# EAGLE library part S-DSP (library apu_module)
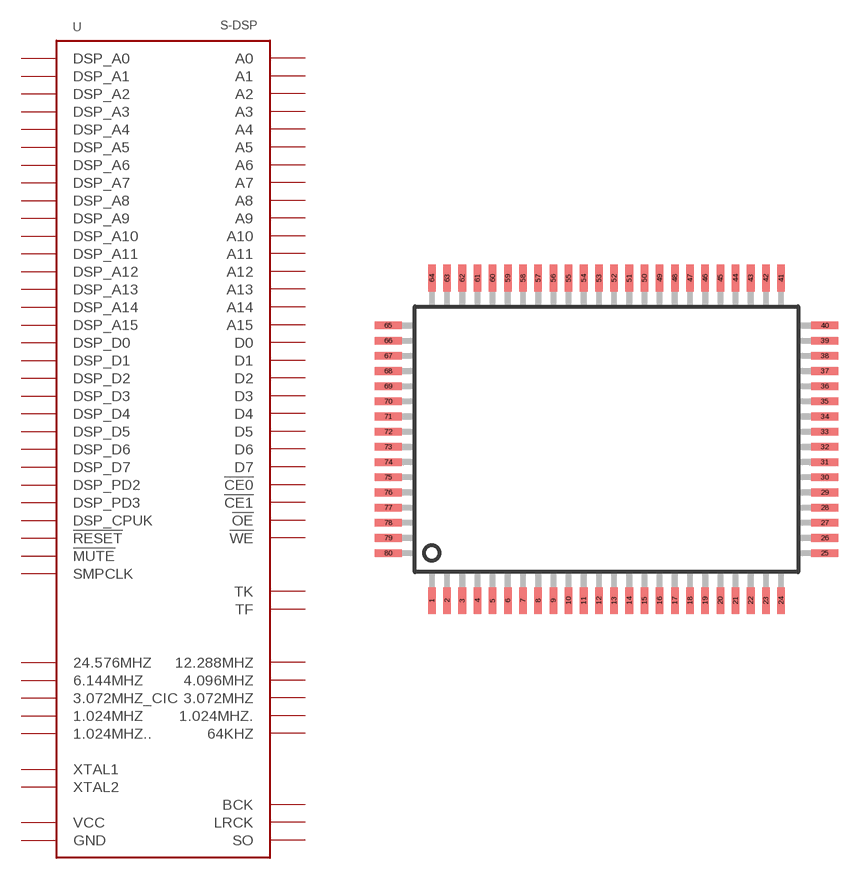
[diagram p1: symbol with the pads of QFP80_SOT318; footprint QFP80_SOT318]

Designator prefix -

## S-DSP  [QFP80_SOT318]
1  4.096MHZ
2  3.072MHZ
3  1.024MHZ
4  1.024MHZ.
5  1.024MHZ..
6  D2
7  D1
8  D0
9  A0
10  A1
11  A2
12  GND
13  A3
14  A4
15  A5
16  A6
17  A7
18  A12
19  A14
20  A15
22  D3
23  D4
24  D5
25  D6
26  D7
27  !CE1
28  !CE0
29  A10
30  !OE
31  A11
32  A9
33  VCC
34  A8
35  A13
36  !WE
37  TF
38  TK
39  !MUTE
40  64KHZ
41  3.072MHZ_CIC
42  BCK
43  LRCK
44  SO
45  XTAL1
46  XTAL2
47  !RESET
48  DSP_CPUK
49  DSP_PD2
50  DSP_PD3
51  DSP_D0
52  GND
53  DSP_D1
54  DSP_D2
55  DSP_D3
56  DSP_D4
57  DSP_D5
58  DSP_D6
59  DSP_D7
60  DSP_A0
61  DSP_A1
62  DSP_A2
63  DSP_A3
64  DSP_A4
65  DSP_A5
66  DSP_A6
67  DSP_A7
68  DSP_A8
69  DSP_A9
70  DSP_A10
71  DSP_A11
72  DSP_A12
73  VCC
74  DSP_A13
75  DSP_A14
76  DSP_A15
77  24.576MHZ
78  SMPCLK
79  12.288MHZ
80  6.144MHZ

## Footprint QFP80_SOT318 (pad centres in mm)
Plastic Quad Flat Package SOT318-1/-2 80 leads source: http://www.semiconductors.philips.com/ LQFP-MSQFP-QFP-SQFP-TQFP-REFLOW.pdf
smd 0.4 x 1.4: 1 -9.2,-8.5; 2 -8.4,-8.5; 3 -7.6,-8.5; 4 -6.8,-8.5; 5 -6,-8.5; 6 -5.2,-8.5; 7 -4.4,-8.5; 8 -3.6,-8.5; 9 -2.8,-8.5; 10 -2,-8.5; 11 -1.2,-8.5; 12 -0.4,-8.5; 13 0.4,-8.5; 14 1.2,-8.5; 15 2,-8.5; 16 2.8,-8.5; 17 3.6,-8.5; 18 4.4,-8.5; 19 5.2,-8.5; 20 6,-8.5; 21 6.8,-8.5; 22 7.6,-8.5; 23 8.4,-8.5; 24 9.2,-8.5; 41 9.2,8.5; 42 8.4,8.5; 43 7.6,8.5; 44 6.8,8.5; 45 6,8.5; 46 5.2,8.5; 47 4.4,8.5; 48 3.6,8.5; 49 2.8,8.5; 50 2,8.5; 51 1.2,8.5; 52 0.4,8.5; 53 -0.4,8.5; 54 -1.2,8.5; 55 -2,8.5; 56 -2.8,8.5; 57 -3.6,8.5; 58 -4.4,8.5; 59 -5.2,8.5; 60 -6,8.5; 61 -6.8,8.5; 62 -7.6,8.5; 63 -8.4,8.5; 64 -9.2,8.5
smd 1.4 x 0.4: 25 11.5,-6; 26 11.5,-5.2; 27 11.5,-4.4; 28 11.5,-3.6; 29 11.5,-2.8; 30 11.5,-2; 31 11.5,-1.2; 32 11.5,-0.4; 33 11.5,0.4; 34 11.5,1.2; 35 11.5,2; 36 11.5,2.8; 37 11.5,3.6; 38 11.5,4.4; 39 11.5,5.2; 40 11.5,6; 65 -11.5,6; 66 -11.5,5.2; 67 -11.5,4.4; 68 -11.5,3.6; 69 -11.5,2.8; 70 -11.5,2; 71 -11.5,1.2; 72 -11.5,0.4; 73 -11.5,-0.4; 74 -11.5,-1.2; 75 -11.5,-2; 76 -11.5,-2.8; 77 -11.5,-3.6; 78 -11.5,-4.4; 79 -11.5,-5.2; 80 -11.5,-6